# EAGLE library part KNJNRS232FPGAPLUTO-II (library KNJN_RS232_FPGA_Pluto-II)
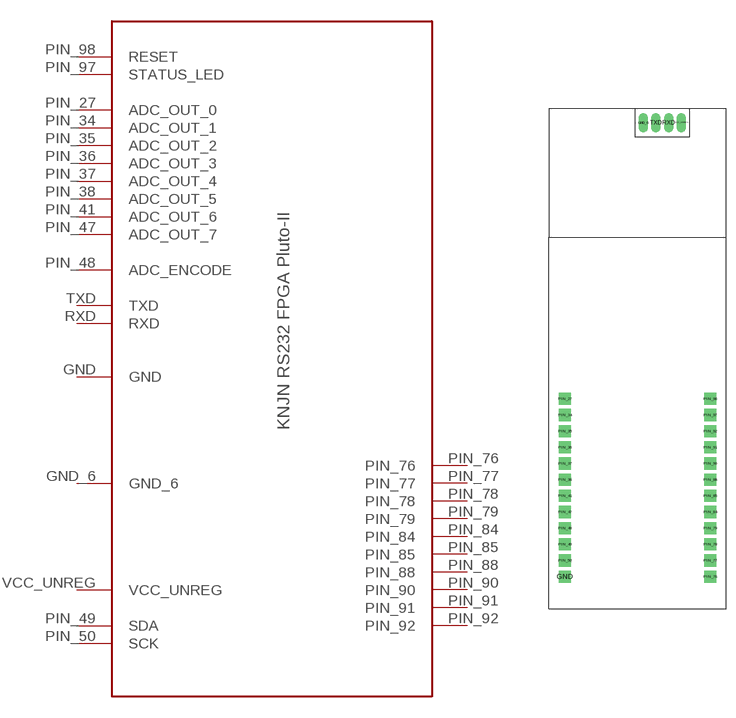
[diagram p0: symbol with the pads of KNJNRS232FPGAPLUTO-II; footprint KNJNRS232FPGAPLUTO-II]

Designator prefix KNJN_FPGA

## KNJNRS232FPGAPLUTO-IIKNJNRS232FPGAPLUTO-II  [KNJNRS232FPGAPLUTO-II]
GND  GND
GND_6  GND_6
PIN_27  ADC_OUT_0
PIN_34  ADC_OUT_1
PIN_35  ADC_OUT_2
PIN_36  ADC_OUT_3
PIN_37  ADC_OUT_4
PIN_38  ADC_OUT_5
PIN_41  ADC_OUT_6
PIN_47  ADC_OUT_7
PIN_48  ADC_ENCODE
PIN_49  SDA
PIN_50  SCK
PIN_76  PIN_76
PIN_77  PIN_77
PIN_78  PIN_78
PIN_79  PIN_79
PIN_84  PIN_84
PIN_85  PIN_85
PIN_88  PIN_88
PIN_90  PIN_90
PIN_91  PIN_91
PIN_92  PIN_92
PIN_97  STATUS_LED
PIN_98  RESET
RXD  RXD
TXD  TXD
VCC_UNREG  VCC_UNREG

## Footprint KNJNRS232FPGAPLUTO-II (pad centres in mm)
drill 0.8 pad 1.905 square: GND -6.35,-6.35; PIN_27 -6.35,21.59; PIN_34 -6.35,19.05; PIN_35 -6.35,16.51; PIN_36 -6.35,13.97; PIN_37 -6.35,11.43; PIN_38 -6.35,8.89; PIN_41 -6.35,6.35; PIN_47 -6.35,3.81; PIN_48 -6.35,1.27; PIN_49 -6.35,-1.27; PIN_50 -6.35,-3.81; PIN_76 16.51,-6.35; PIN_77 16.51,-3.81; PIN_78 16.51,-1.27; PIN_79 16.51,1.27; PIN_84 16.51,3.81; PIN_85 16.51,6.35; PIN_88 16.51,8.89; PIN_90 16.51,11.43; PIN_91 16.51,13.97; PIN_92 16.51,16.51; PIN_97 16.51,19.05; PIN_98 16.51,21.59
drill 1 pad 1.4 long: GND_6 6,65; RXD 10,65; TXD 8,65; VCC_UNREG 12,65